# EAGLE library part PLMR38020FDDAR (library PLMR38020)
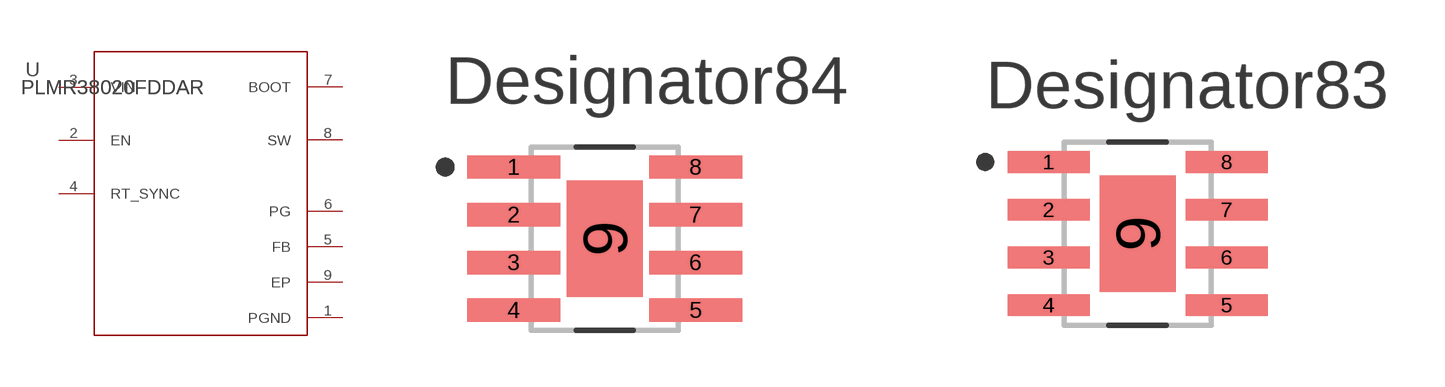
[diagram p0: symbol with the pads of DDA0008E-IPC_A; footprints DDA0008E-IPC_A, DDA0008E-IPC_B]

Designator prefix U

## PLMR38020FDDAR (COPYRIGHT: Copyright (C) 2023 Ultra Librarian. All rights reserved.; MANUFACTURER_PART_NUMBER: PLMR38020FDDAR; MFR_NAME: Texas Instruments; REFDES: RefDes; TYPE: TYPE)  [DDA0008E-IPC_A]
1  PGND  pwr
2  EN  in
3  VIN  pwr
4  RT_SYNC  pas
5  FB  pas
6  PG  oc
7  BOOT  pas
8  SW  pas
9  EP  pas

## PLMR38020FDDARDDA0008E-IPC_B (COPYRIGHT: Copyright (C) 2023 Ultra Librarian. All rights reserved.; MANUFACTURER_PART_NUMBER: PLMR38020FDDAR; MFR_NAME: Texas Instruments; REFDES: RefDes; TYPE: TYPE)  [DDA0008E-IPC_B]
Pads as for DDA0008E-IPC_A

## PLMR38020FDDARDDA0008E-IPC_C (COPYRIGHT: Copyright (C) 2023 Ultra Librarian. All rights reserved.; MANUFACTURER_PART_NUMBER: PLMR38020FDDAR; MFR_NAME: Texas Instruments; REFDES: RefDes; TYPE: TYPE)  [DDA0008E-IPC_C]
Pads as for DDA0008E-IPC_A

## PLMR38020FDDARDDA0008E-MFG (COPYRIGHT: Copyright (C) 2023 Ultra Librarian. All rights reserved.; MANUFACTURER_PART_NUMBER: PLMR38020FDDAR; MFR_NAME: Texas Instruments; REFDES: RefDes; TYPE: TYPE)  [DDA0008E-MFG]
Pads as for DDA0008E-IPC_A

## Footprint DDA0008E-IPC_A (pad centres in mm)
smd 2.474 x 0.622: 1 -2.416,1.905; 2 -2.416,0.635; 3 -2.416,-0.635; 4 -2.416,-1.905; 5 2.416,-1.905; 6 2.416,-0.635; 7 2.416,0.635; 8 2.416,1.905
smd 2.025 x 3.1: 9 0,0

## Footprint DDA0008E-IPC_B (pad centres in mm)
smd 2.174 x 0.582: 1 -2.366,1.905; 2 -2.366,0.635; 3 -2.366,-0.635; 4 -2.366,-1.905; 5 2.366,-1.905; 6 2.366,-0.635; 7 2.366,0.635; 8 2.366,1.905
smd 2.025 x 3.1: 9 0,0

## Footprint DDA0008E-IPC_C (pad centres in mm)
smd 1.874 x 0.542: 1 -2.316,1.905; 2 -2.316,0.635; 3 -2.316,-0.635; 4 -2.316,-1.905; 5 2.316,-1.905; 6 2.316,-0.635; 7 2.316,0.635; 8 2.316,1.905
smd 2.025 x 3.1: 9 0,0

## Footprint DDA0008E-MFG (pad centres in mm)
smd 2.2 x 0.5: 1 -2.875,1.905; 2 -2.875,0.635; 3 -2.875,-0.635; 4 -2.875,-1.905; 5 2.875,-1.905; 6 2.875,-0.635; 7 2.875,0.635; 8 2.875,1.905
smd 2.95 x 4.9: 9 0,0
drill 0.33 pad 0.635: 10 0.66,-1.295; 11 0.66,0; 12 0.66,1.295; 13 -0.66,-1.295; 14 -0.66,0; 15 -0.66,1.295